# EAGLE library part PIC16LF876A-I/SS (library PIC16LF876A-I_SS)
Microcontrollers
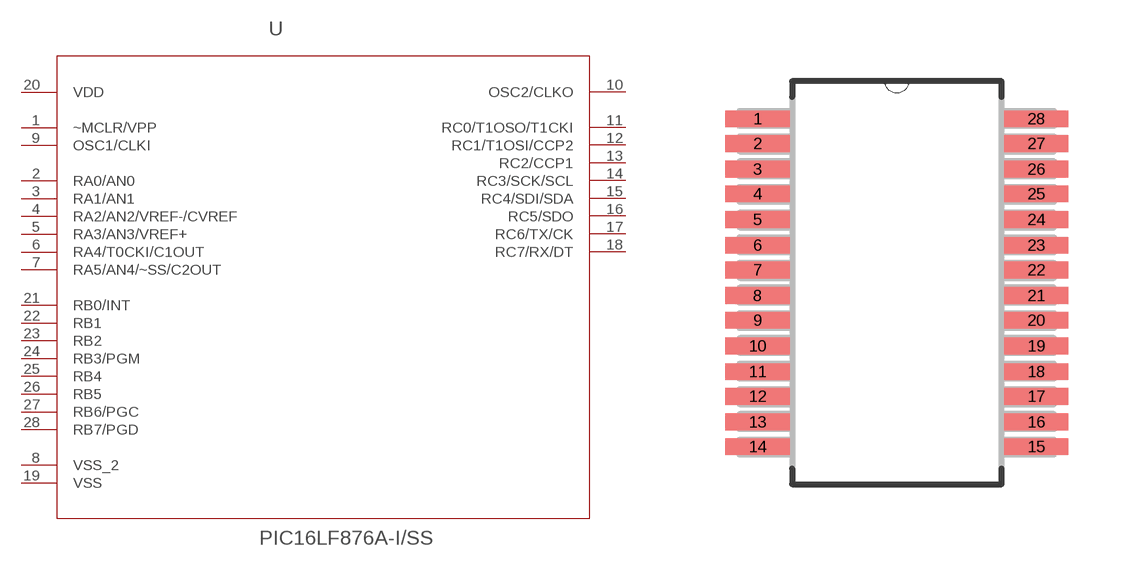
[diagram p0: symbol with the pads of SOP254P785X200-28N; footprint SOP254P785X200-28N]

Designator prefix -

## PIC16LF876A-I/SS (Availability: Unavailable; Description: PIC16 Series 368 B RAM 14 kB Flash 8-Bit Enhanced Microcontroller - SSOP-28; MF: Microchip; MP: PIC16LF876A-I/SS; Package: SSOP-28 Microchip; Price: None)  [SOP254P785X200-28N]
1  ~MCLR/VPP  in
2  RA0/AN0
3  RA1/AN1
4  RA2/AN2/VREF-/CVREF
5  RA3/AN3/VREF+
6  RA4/T0CKI/C1OUT
7  RA5/AN4/~SS/C2OUT
8  VSS_2  pwr
9  OSC1/CLKI  in
10  OSC2/CLKO  out
11  RC0/T1OSO/T1CKI
12  RC1/T1OSI/CCP2
13  RC2/CCP1
14  RC3/SCK/SCL
15  RC4/SDI/SDA
16  RC5/SDO
17  RC6/TX/CK
18  RC7/RX/DT
19  VSS  pwr
20  VDD  pwr
21  RB0/INT
22  RB1
23  RB2
24  RB3/PGM
25  RB4
26  RB5
27  RB6/PGC
28  RB7/PGD

## Footprint SOP254P785X200-28N (pad centres in mm)
smd 1.651 x 0.432: 1 -3.581,4.216; 2 -3.581,3.581; 3 -3.581,2.921; 4 -3.581,2.286; 5 -3.581,1.626; 6 -3.581,0.965; 7 -3.581,0.33; 8 -3.581,-0.33; 9 -3.581,-0.965; 10 -3.581,-1.626; 11 -3.581,-2.286; 12 -3.581,-2.921; 13 -3.581,-3.581; 14 -3.581,-4.216; 15 3.581,-4.216; 16 3.581,-3.581; 17 3.581,-2.921; 18 3.581,-2.286; 19 3.581,-1.626; 20 3.581,-0.965; 21 3.581,-0.33; 22 3.581,0.33; 23 3.581,0.965; 24 3.581,1.626; 25 3.581,2.286; 26 3.581,2.921; 27 3.581,3.581; 28 3.581,4.216